# EAGLE library part ESP32_C6_LIBRARY_3_USBLC6-2SC6Y (library InkTime_v5)
Low Cap. ESD Protection Auto SOT-23-6 STMicroelectronics USBLC6-2SC6Y, Dual Uni-Directional TVS Diode Array, 6-Pin SOT-23 Source: Datasheet <https://componentsearchengine.com/Datasheets/1/USBLC6-2SC6Y.pdf> Check availability <https://pricing.snapeda.com/parts/USBLC6-2SC6Y/STMicroelectronics/view-part?ref=eda>
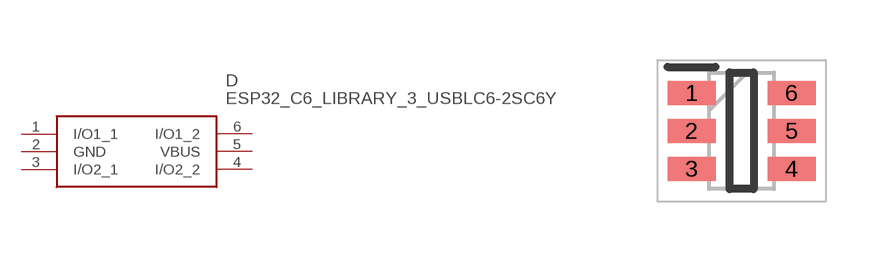
[diagram p3: symbol with the pads of ESP32_C6_LIBRARY_3_SOT95P280X145-6N; footprint ESP32_C6_LIBRARY_3_SOT95P280X145-6N]

Designator prefix D

## ESP32_C6_LIBRARY_3_USBLC6-2SC6Y  [ESP32_C6_LIBRARY_3_SOT95P280X145-6N]
1  I/O1_1
2  GND
3  I/O2_1
4  I/O2_2
5  VBUS
6  I/O1_2

## Footprint ESP32_C6_LIBRARY_3_SOT95P280X145-6N (pad centres in mm)
SOT23-6(ESDA6V1-5SC6Y)
smd 1.2 x 0.6: 1 -1.25,0.95; 2 -1.25,0; 3 -1.25,-0.95; 4 1.25,-0.95; 5 1.25,0; 6 1.25,0.95